# EAGLE library part ACPL-C87A-500E (library ACPL-C87A-500E)
Broadcom, ACPL-C87A-500E Optocoupler, Surface Mount, 8-Pin SO Source: Datasheet <https://docs.broadcom.com/docs/AV02-3563EN>
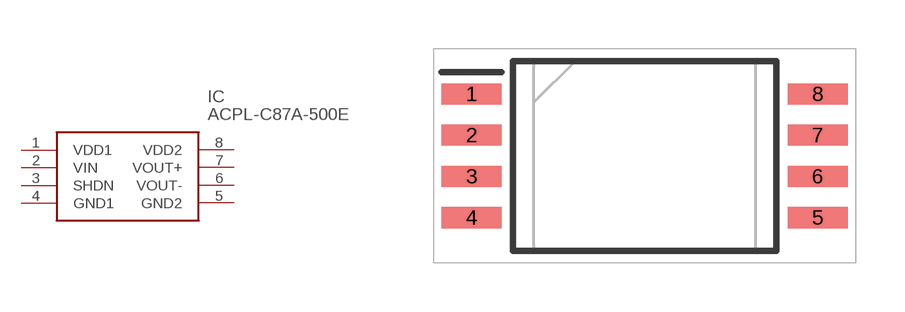
[diagram p0: symbol with the pads of SOIC127P1150X361-8N; footprint SOIC127P1150X361-8N]

Designator prefix IC

## ACPL-C87A-500E (Description: Broadcom, ACPL-C87A-500E Optocoupler, Surface Mount, 8-Pin SO; Height: 3.607mm; Manufacturer_Name: Avago Technologies; Manufacturer_Part_Number: ACPL-C87A-500E; Mouser_Part_Number: 630-ACPL-C87A-500E; Mouser_Price-Stock: https://www.mouser.co.uk/ProductDetail/Broadcom-Avago/ACPL-C87A-500E?qs=mhB89zxvawnihD62lh78rg%3D%3D)  [SOIC127P1150X361-8N]
1  VDD1
2  VIN
3  SHDN
4  GND1
5  GND2
6  VOUT-
7  VOUT+
8  VDD2

## Footprint SOIC127P1150X361-8N (pad centres in mm)
SSO-8)
smd 1.85 x 0.65: 1 -5.325,1.905; 2 -5.325,0.635; 3 -5.325,-0.635; 4 -5.325,-1.905; 5 5.325,-1.905; 6 5.325,-0.635; 7 5.325,0.635; 8 5.325,1.905